# Altium footprint library Connector_RJ.PcbLib: 38 footprints (part 3 of 3)
Each footprint in its own frame and in the unit in brackets; x right, y up, seen from the top. Pads: shape width x height; smd on the part's side, far side on the other; paste and mask are expansions set on the pad; w line width, h text height; cw(c..) or ccw(c..) is an arc to the next point about the centre after c.
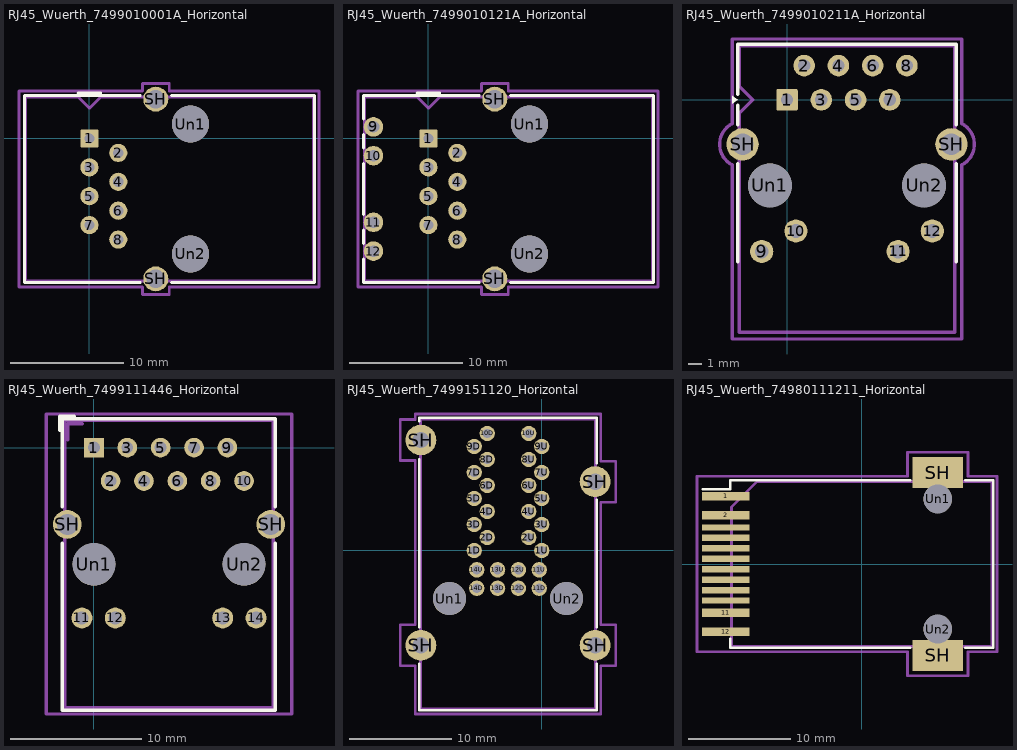
[diagram p2: the footprints below, top view; thin cyan lines are the x and y axes]

## RJ45_Wuerth_7499010001A_Horizontal [mm]
pads (12):
  rrect16% 1.6x1.6 hole 0.9: 1(0,0)
  round 1.6 hole 0.9: 2(2.54,-1.27) 3(0,-2.54) 4(2.54,-3.81) 5(0,-5.08) 6(2.54,-6.35) 7(0,-7.62) 8(2.54,-8.89)
  round 2.2 hole 1.6: SH(5.84,-12.345) SH(5.84,3.455)
  round 3.25 hole 3.25: Un1(8.89,1.27) Un2(8.89,-10.16)
F.SilkS:
  lines w0.254: -1,4 1,4 ; 4.47,-12.655 -5.72,-12.655 -5.72,3.765 4.47,3.765 ; 7.21,-12.655 19.8,-12.655 19.8,3.765 7.21,3.765
Top Assembly:
  lines w0.254: -1,3.655 -5.61,3.655 -5.61,-12.545 19.69,-12.545 19.69,3.655 1,3.655 0,2.655 ; -1,3.66 0,2.66
  text "'.Designator'" at 3.453,-4.84 h1
Top Courtyard:
  lines w0.254: -6.19,-13.05 4.66,-13.05 4.66,-13.72 7.02,-13.72 7.02,-13.05 20.19,-13.05 20.19,4.16 7.02,4.16 7.02,4.83 4.66,4.83 4.66,4.16 -6.19,4.16 -6.19,-13.05
Top Designator:
  text ".Designator" at -0.618,-4.953 h1.52

## RJ45_Wuerth_7499010121A_Horizontal [mm]
pads (16):
  rrect16% 1.6x1.6 hole 0.9: 1(0,0)
  round 1.6 hole 0.9: 2(2.54,-1.27) 3(0,-2.54) 4(2.54,-3.81) 5(0,-5.08) 6(2.54,-6.35) 7(0,-7.62) 8(2.54,-8.89)
  round 1.72 hole 1.02: 9(-4.83,1.02) 10(-4.83,-1.52) 11(-4.83,-7.37) 12(-4.83,-9.91)
  round 2.2 hole 1.6: SH(5.84,-12.345) SH(5.84,3.455)
  round 3.25 hole 3.25: Un1(8.89,1.27) Un2(8.89,-10.16)
F.SilkS:
  lines w0.254: -5.72,-10.59 -5.72,-12.655 4.47,-12.655 ; -5.72,-9.23 -5.72,-8.05 ; -5.72,-6.69 -5.72,-2.2 ; -5.72,-0.84 -5.72,0.34 ; -5.72,1.7 -5.72,3.765 4.47,3.765 ; -1,4 1,4 ; 7.21,-12.655 19.8,-12.655 19.8,3.765 7.21,3.765
Top Assembly:
  lines w0.254: -1,3.655 -5.61,3.655 -5.61,-12.545 19.69,-12.545 19.69,3.655 1,3.655 0,2.655 ; -1,3.66 0,2.66
  text "'.Designator'" at 3.453,-4.84 h1
Top Courtyard:
  lines w0.254: -6.19,-13.05 4.66,-13.05 4.66,-13.72 7.02,-13.72 7.02,-13.05 20.19,-13.05 20.19,4.16 7.02,4.16 7.02,4.83 4.66,4.83 4.66,4.16 -6.19,4.16 -6.19,-13.05
Top Designator:
  text ".Designator" at -0.618,-4.953 h1.52

## RJ45_Wuerth_7499010211A_Horizontal [mm]
pads (16):
  rrect16% 1.6x1.6 hole 0.9: 1(0,0)
  round 1.6 hole 0.9: 2(1.27,2.54) 3(2.54,0) 4(3.81,2.54) 5(5.08,0) 6(6.35,2.54) 7(7.62,0) 8(8.89,2.54)
  round 1.72 hole 1.03: 9(-1.88,-11.25) 10(0.66,-9.73) 11(8.23,-11.25) 12(10.77,-9.73)
  round 2.4 hole 1.6: SH(-3.3,-3.3) SH(12.19,-3.3)
  round 3.25 hole 3.25: Un1(-1.27,-6.35) Un2(10.16,-6.35)
F.SilkS:
  region: -3.67,0 -4.07,-0.3 -4.07,0.3
  lines w0.254: -3.665,-12 -3.665,-4.73 ; -3.665,-1.87 -3.665,-0.4 ; -3.665,0.4 -3.665,4.12 12.555,4.12 12.555,-1.87 ; 12.555,-12 12.555,-4.73
Top Assembly:
  lines w0.254: -2.56,0 -3.555,1 -3.555,4.01 12.445,4.01 12.445,-17.24 -3.555,-17.24 -3.555,-1 -2.555,0
  text "'.Designator'" at 5.285,-10.662 h1
Top Courtyard:
  lines w0.254: -4.06,-17.74 12.95,-17.74 12.95,-4.83 ccw(c12.19,-3.3) 12.95,-1.77 12.95,4.51 -4.06,4.51 -4.06,-1.77 ccw(c-3.3,-3.3) -4.06,-4.83 -4.06,-17.74
Top Designator:
  text ".Designator" at -3.173,-7.123 h1.52

## RJ45_Wuerth_7499111446_Horizontal [mm]
pads (18):
  rect 1.5x1.5 hole 0.9: 1(0,0)
  round 1.5 hole 0.9: 2(1.27,-2.54) 3(2.54,0) 4(3.81,-2.54) 5(5.08,0) 6(6.35,-2.54) 7(7.62,0) 8(8.89,-2.54) 9(10.16,0) 10(11.43,-2.54)
  round 1.6 hole 1.02: 11(-0.915,-12.97) 12(1.625,-12.97) 13(9.805,-12.97) 14(12.345,-12.97)
  round 2.2 hole 1.6: SH(-2.03,-5.84) SH(13.46,-5.84)
  round 3.25 hole 3.25: Un1(0,-8.89) Un2(11.43,-8.89)
F.SilkS:
  lines w0.254: -2.6,1.31 -2.6,2.4 -1.485,2.4 ; -2.4,-7.29 -2.4,-20 13.8,-20 13.8,-7.29 ; -2.4,-4.49 -2.4,2.2 13.8,2.2 13.8,-4.49
Top Assembly:
  lines w0.254: -1.985,0.61 -1.985,1.81 -0.885,1.81 ; -2.225,-19.78 13.655,-19.78 13.655,2.06 -2.225,2.06 -2.225,-19.78
  text "'.Designator'" at 1.668,-9.73 h1
Top Courtyard:
  lines w0.254: -3.63,-20.28 15.06,-20.28 15.06,2.56 -3.63,2.56 -3.63,-20.28
Top Designator:
  text ".Designator" at -1.903,-9.368 h1.52

## RJ45_Wuerth_7499151120_Horizontal [mm]
pads (34):
  round 1.5 hole 0.9: 1D(-6.6,0) 1U(0,0) 2D(-5.33,1.27) 2U(-1.27,1.27) 3D(-6.6,2.54) 3U(0,2.54) 4D(-5.33,3.81) 4U(-1.27,3.81) 5D(-6.6,5.08) 5U(0,5.08) 6D(-5.33,6.35) 6U(-1.27,6.35) 7D(-6.6,7.62) 7U(0,7.62) 8D(-5.33,8.89) 8U(-1.27,8.89) 9D(-6.6,10.16) 9U(0,10.16) 10D(-5.33,11.43) 10U(-1.27,11.43) 11D(-0.255,-3.69) 11U(-0.255,-1.89) 12D(-2.285,-3.69) 12U(-2.285,-1.89) 13D(-4.315,-3.69) 13U(-4.315,-1.89) 14D(-6.345,-3.69) 14U(-6.345,-1.89)
  round 3 hole 1.6: SH(-11.805,-9.27) SH(-11.805,10.79) SH(5.205,-9.27) SH(5.205,6.73)
  round 3.25 hole 3.25: Un1(-9.015,-4.7) Un2(2.415,-4.7)
F.SilkS:
  lines w0.254: -11.965,-11.07 -11.965,-15.59 5.365,-15.59 5.365,-11.07 ; -11.965,-7.47 -11.965,8.93 ; -11.965,12.63 -11.965,12.95 5.365,12.95 5.365,8.53 ; 5.365,-7.47 5.365,4.93
Top Assembly:
  lines w0.254: -11.845,-15.47 5.245,-15.47 5.245,12.83 -11.845,12.83 -11.845,-15.47
  text "'.Designator'" at -7.347,-1.31 h1
Top Courtyard:
  lines w0.254: -13.81,-11.27 -12.35,-11.27 -12.35,-15.97 5.75,-15.97 5.75,-11.27 7.21,-11.27 7.21,-7.27 5.75,-7.27 5.75,4.73 7.21,4.73 7.21,8.73 5.75,8.73 5.75,13.33 -12.35,13.33 -12.35,12.79 -13.81,12.79 -13.81,8.79 -12.35,8.79 -12.35,-7.27 -13.81,-7.27 -13.81,-11.27
Top Designator:
  text ".Designator" at -10.539,0.889 h1.52
Dwgs.User:
  lines w0.254: -11.845,-15.47 5.245,-15.47
3D body "RJ45_Wuerth_7499151120_Horizontal.stp": height 26.5, standoff -3.8, extent -13.075,-15.417 6.413,13.084

## RJ45_Wuerth_74980111211_Horizontal [mm]
pads (16):
  rect 4.6x0.81 smd: 1(-13.27,6.61) 2(-13.27,4.77) 11(-13.27,-4.77) 12(-13.27,-6.61)
  rect 4.6x0.61 smd: 3(-13.27,3.57) 4(-13.27,2.55) 5(-13.27,1.53) 6(-13.27,0.51) 7(-13.27,-0.51) 8(-13.27,-1.53) 9(-13.27,-2.55) 10(-13.27,-3.57)
  rect 4.9x3 smd: SH(7.42,-8.92) SH(7.42,8.92)
  round 2.8 hole 2.8: Un1(7.42,6.35) Un2(7.42,-6.35)
F.SilkS:
  lines w0.254: -15.5,7.3 -12.82,7.3 -12.82,8.17 4.72,8.17 ; -12.82,-7.3 -12.82,-8.17 4.72,-8.17 ; 10.12,-8.17 12.82,-8.17 12.82,8.17 10.12,8.17
Top Assembly:
  lines w0.254: -12.7,-8.05 12.7,-8.05 12.7,8.05 -10.2,8.05 -12.7,5.55 -12.7,-8.05
  text "'.Designator'" at -4.047,-0.84 h1
Top Courtyard:
  lines w0.254: -16.07,-8.55 4.47,-8.55 4.47,-10.92 10.37,-10.92 10.37,-8.55 13.2,-8.55 13.2,8.55 10.37,8.55 10.37,10.92 4.47,10.92 4.47,8.55 -16.07,8.55 -16.07,-8.55
Top Designator:
  text ".Designator" at -9.053,-0.508 h1.52